# EAGLE library part 0527450897 (library 0527450897)
Easy-On FFC/FPC Connector, 0.50mm Pitch, Slider Series, Right-Angle, Top Contact, 2.00mm Height, 8 Circuits, Gold Plating Source: Datasheet <https://www.molex.com/en-us/products/part-detail-pdf/527450897?display=pdf>
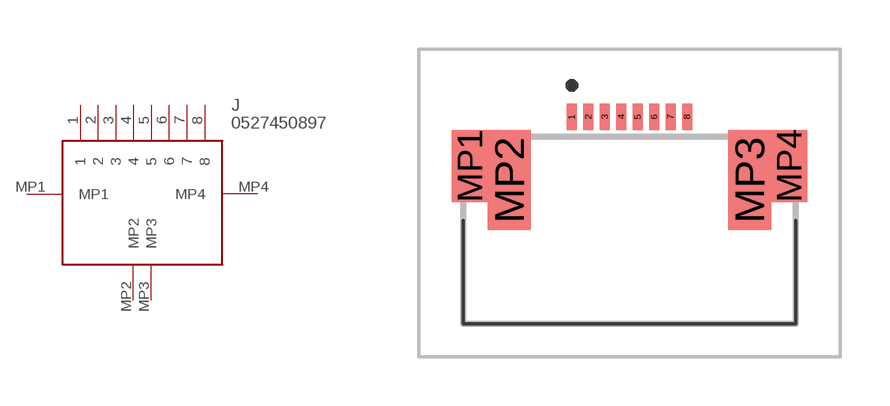
[diagram p0: symbol with the pads of 0527450897; footprint 0527450897]

Designator prefix J

## 0527450897 (Arrow_Part_Number: 0527450897; Arrow_Price-Stock: https://www.arrow.com/en/products/0527450897/molex; Description: Easy-On FFC/FPC Connector, 0.50mm Pitch, Slider Series, Right-Angle, Top Contact, 2.00mm Height, 8 Circuits, Gold Plating; Height: 2.2mm; Manufacturer_Name: Molex; Manufacturer_Part_Number: 0527450897)  [0527450897]
1  1
2  2
3  3
4  4
5  5
6  6
7  7
8  8
MP1  MP1
MP2  MP2
MP3  MP3
MP4  MP4

## Footprint 0527450897 (pad centres in mm)
0527450897-4
smd 0.3 x 0.8: 1 -1.75,3.15; 2 -1.25,3.15; 3 -0.75,3.15; 4 -0.25,3.15; 5 0.25,3.15; 6 0.75,3.15; 7 1.25,3.15; 8 1.75,3.15
smd 1.1 x 2.2: MP1 -4.85,1.65; MP4 4.85,1.65
smd 1.3 x 3.05: MP2 -3.65,1.225; MP3 3.65,1.225